# Altium footprint library xicor.PCBLIB: 2 footprints
Each footprint in its own frame and in the unit in brackets; x right, y up, seen from the top. Pads: shape width x height; smd on the part's side, far side on the other; paste and mask are expansions set on the pad; w line width, h text height; cw(c..) or ccw(c..) is an arc to the next point about the centre after c.
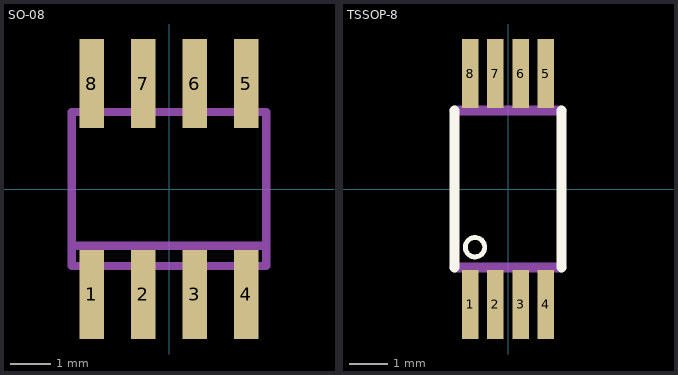
[diagram p0: the footprints below, top view; thin cyan lines are the x and y axes]

## SO-08 [mil]
pads (8):
  rect 23.62x86.61 smd: 1(-75,-102.36) 2(-25,-102.36) 3(25,-102.36) 4(75,-102.36) 5(75,102.36) 6(25,102.36) 7(-25,102.36) 8(-75,102.36)
Mechanical 16:
  rectangle: -84.65,-122.05 -65.35,-78.74
  rectangle: -34.65,-122.05 -15.35,-78.74
  rectangle: 15.35,-122.05 34.65,-78.74
  rectangle: 65.35,-122.05 84.65,-78.74
  rectangle: 65.35,78.74 84.65,122.05
  rectangle: 15.35,78.74 34.65,122.05
  rectangle: -34.65,78.74 -15.35,122.05
  rectangle: -84.65,78.74 -65.35,122.05
  lines w8: -94.49,-55.12 -94.49,-74.8 94.49,-74.8 94.49,-55.12 ; -94.49,-55.12 -94.49,74.8 94.49,74.8 94.49,-55.12 ; -94.49,-55.12 94.49,-55.12

## TSSOP-8 [mil]
pads (8):
  rect 16.54x70.08 smd: 1(-38.39,-117.13) 2(-12.8,-117.13) 3(12.8,-117.13) 4(38.39,-117.13) 5(38.39,117.13) 6(12.8,117.13) 7(-12.8,117.13) 8(-38.39,117.13)
Top Overlay:
  circle w5: c-33.46,-59.06 r9.84
  lines w10: -54.13,-79.72 -54.13,79.72 ; 54.13,-79.72 54.13,79.72
Mechanical 16:
  rectangle: -43.31,-125.98 -33.46,-80.71
  rectangle: -17.72,-125.98 -7.87,-80.71
  rectangle: 7.87,-125.98 17.72,-80.71
  rectangle: 33.46,-125.98 43.31,-80.71
  region: 43.31,125.98 33.46,125.98 33.46,80.71 43.31,80.71
  region: 17.72,125.98 7.87,125.98 7.87,80.71 17.72,80.71
  region: -7.87,125.98 -17.72,125.98 -17.72,80.71 -7.87,80.71
  region: -33.46,125.98 -43.31,125.98 -43.31,80.71 -33.46,80.71
  lines w10: -54.13,-79.72 54.13,-79.72 ; -54.13,79.72 54.13,79.72